# Altium schematic symbol library MAX98357AETE.SchLib: 1 symbol
Pins are listed as number, name and electrical type; pins without a type are passive.

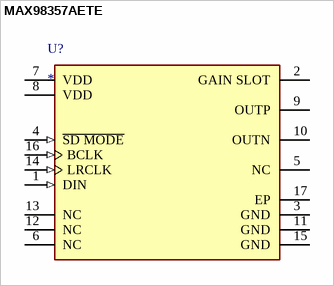
[diagram p0: symbol MAX98357AETE]

## MAX98357AETE
designator U?
IC AMP CLASS D MONO 3.2W 16TQFN
footprint FP-T1633-4-MFG
pins: 1 DIN (in), 2 GAIN SLOT, 3 GND (power), 4 ~{SD MODE} (in), 5 NC, 6 NC, 7 VDD (power), 8 VDD (power), 9 OUTP, 10 OUTN, 11 GND (power), 12 NC, 13 NC, 14 LRCLK (in), 15 GND (power), 16 BCLK (in), 17 EP